# Altium footprint library philips-semiconductors.PCBLIB: 4 footprints
Each footprint in its own frame and in the unit in brackets; x right, y up, seen from the top. Pads: shape width x height; smd on the part's side, far side on the other; paste and mask are expansions set on the pad; w line width, h text height; cw(c..) or ccw(c..) is an arc to the next point about the centre after c.
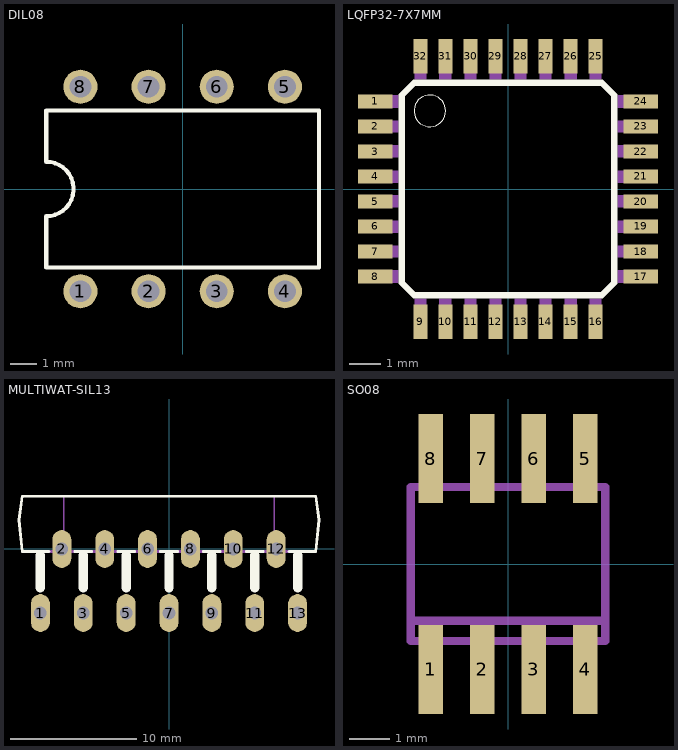
[diagram p0: the footprints below, top view; thin cyan lines are the x and y axes]

## DIL08 [mil]
pads (8):
  round 50 hole 32: 1(-150,-150) 2(-50,-150) 3(50,-150) 4(150,-150) 5(150,150) 6(50,150) 7(-50,150) 8(-150,150)
Top Overlay:
  lines w6: -200,-115 200,-115 200,115 -200,115 -200,40 cw(c-200,0) -200,-40 -200,-115

## LQFP32-7X7MM [mm]
pads (32):
  rect 1.1x0.45 smd: 1(-4.25,2.8) 2(-4.25,2) 3(-4.25,1.2) 4(-4.25,0.4) 5(-4.25,-0.4) 6(-4.25,-1.2) 7(-4.25,-2) 8(-4.25,-2.8) 17(4.25,-2.8) 18(4.25,-2) 19(4.25,-1.2) 20(4.25,-0.4) 21(4.25,0.4) 22(4.25,1.2) 23(4.25,2) 24(4.25,2.8)
  rect 0.45x1.1 smd: 9(-2.8,-4.25) 10(-2,-4.25) 11(-1.2,-4.25) 12(-0.4,-4.25) 13(0.4,-4.25) 14(1.2,-4.25) 15(2,-4.25) 16(2.8,-4.25) 25(2.8,4.25) 26(2,4.25) 27(1.2,4.25) 28(0.4,4.25) 29(-0.4,4.25) 30(-1.2,4.25) 31(-2,4.25) 32(-2.8,4.25)
Top Overlay:
  circle w0: c-2.5,2.5 r0.505
  lines w0.203: -3.399,-2.998 -3.399,2.998 -2.998,3.399 2.998,3.399 3.399,2.998 3.399,-2.998 2.998,-3.399 -2.998,-3.399 -3.399,-2.998
Mechanical 16:
  rectangle: -4.5,2.6 -3.5,3
  rectangle: -4.5,1.8 -3.5,2.2
  rectangle: -4.5,1 -3.5,1.4
  rectangle: -4.5,0.2 -3.5,0.6
  rectangle: -4.5,-0.6 -3.5,-0.2
  rectangle: -4.5,-1.4 -3.5,-1
  rectangle: -4.5,-2.2 -3.5,-1.8
  rectangle: -4.5,-3 -3.5,-2.6
  region: -2.6,-4.5 -2.6,-3.5 -3,-3.5 -3,-4.5
  region: -1.8,-4.5 -1.8,-3.5 -2.2,-3.5 -2.2,-4.5
  region: -1,-4.5 -1,-3.5 -1.4,-3.5 -1.4,-4.5
  region: -0.2,-4.5 -0.2,-3.5 -0.6,-3.5 -0.6,-4.5
  region: 0.6,-4.5 0.6,-3.5 0.2,-3.5 0.2,-4.5
  region: 1.4,-4.5 1.4,-3.5 1,-3.5 1,-4.5
  region: 2.2,-4.5 2.2,-3.5 1.8,-3.5 1.8,-4.5
  region: 3,-4.5 3,-3.5 2.6,-3.5 2.6,-4.5
  region: 4.5,-2.6 3.5,-2.6 3.5,-3 4.5,-3
  region: 4.5,-1.8 3.5,-1.8 3.5,-2.2 4.5,-2.2
  region: 4.5,-1 3.5,-1 3.5,-1.4 4.5,-1.4
  region: 4.5,-0.2 3.5,-0.2 3.5,-0.6 4.5,-0.6
  region: 4.5,0.6 3.5,0.6 3.5,0.2 4.5,0.2
  region: 4.5,1.4 3.5,1.4 3.5,1 4.5,1
  region: 4.5,2.2 3.5,2.2 3.5,1.8 4.5,1.8
  region: 4.5,3 3.5,3 3.5,2.6 4.5,2.6
  region: 2.6,4.5 2.6,3.5 3,3.5 3,4.5
  region: 1.8,4.5 1.8,3.5 2.2,3.5 2.2,4.5
  region: 1,4.5 1,3.5 1.4,3.5 1.4,4.5
  region: 0.2,4.5 0.2,3.5 0.6,3.5 0.6,4.5
  region: -0.6,4.5 -0.6,3.5 -0.2,3.5 -0.2,4.5
  region: -1.4,4.5 -1.4,3.5 -1,3.5 -1,4.5
  region: -2.2,4.5 -2.2,3.5 -1.8,3.5 -1.8,4.5
  region: -3,4.5 -3,3.5 -2.6,3.5 -2.6,4.5

## MULTIWAT-SIL13 [mm]
pads (13):
  oval 1.5x3 hole 1: 1(-10.2,-5.08) 2(-8.5,0) 3(-6.8,-5.08) 4(-5.1,0) 5(-3.4,-5.08) 6(-1.7,0) 7(0,-5.08) 8(1.7,0) 9(3.4,-5.08) 10(5.1,0) 11(6.8,-5.08) 12(8.5,0) 13(10.2,-5.08)
Top Overlay:
  lines w0.203: -9.52,-0.2 -11.65,-0.2 -11.9,2.3 -11.65,4.2 11.65,4.2 11.9,2.3 11.65,-0.2 9.52,-0.2 ; -7.48,-0.2 -6.12,-0.2 ; -4.08,-0.2 -2.72,-0.2 ; -0.68,-0.2 0.68,-0.2 ; 2.72,-0.2 4.08,-0.2 ; 6.12,-0.2 7.48,-0.2
  lines w0.75: -10.2,-3.06 -10.2,-0.51 ; -6.8,-3.06 -6.8,-0.51 ; -3.4,-3.06 -3.4,-0.51 ; 0,-3.06 0,-0.51 ; 3.4,-3.06 3.4,-0.51 ; 6.8,-3.06 6.8,-0.51 ; 10.2,-3.06 10.2,-0.51
Mechanical 13:
  lines w0.102: -8.35,-0.1 -8.35,4.1 ; 8.35,-0.1 8.35,4.1
Mechanical 16:
  lines w0.203: -9.52,-0.2 -7.48,-0.2 ; -6.12,-0.2 -4.08,-0.2 ; -2.72,-0.2 -0.68,-0.2 ; 0.68,-0.2 2.72,-0.2 ; 4.08,-0.2 6.12,-0.2 ; 7.48,-0.2 9.52,-0.2

## SO08 [mil]
pads (8):
  rect 23.62x86.61 smd: 1(-75,-102.36) 2(-25,-102.36) 3(25,-102.36) 4(75,-102.36) 5(75,102.36) 6(25,102.36) 7(-25,102.36) 8(-75,102.36)
Mechanical 16:
  rectangle: -84.65,-122.05 -65.35,-78.74
  rectangle: -34.65,-122.05 -15.35,-78.74
  rectangle: 15.35,-122.05 34.65,-78.74
  rectangle: 65.35,-122.05 84.65,-78.74
  rectangle: 65.35,78.74 84.65,122.05
  rectangle: 15.35,78.74 34.65,122.05
  rectangle: -34.65,78.74 -15.35,122.05
  rectangle: -84.65,78.74 -65.35,122.05
  lines w8: -94.49,-55.12 -94.49,-74.8 94.49,-74.8 94.49,-55.12 ; -94.49,-55.12 -94.49,74.8 94.49,74.8 94.49,-55.12 ; -94.49,-55.12 94.49,-55.12